# Altium footprint library led.PCBLIB: 114 footprints (part 8 of 8)
Each footprint in its own frame and in the unit in brackets; x right, y up, seen from the top. Pads: shape width x height; smd on the part's side, far side on the other; paste and mask are expansions set on the pad; w line width, h text height; cw(c..) or ccw(c..) is an arc to the next point about the centre after c.
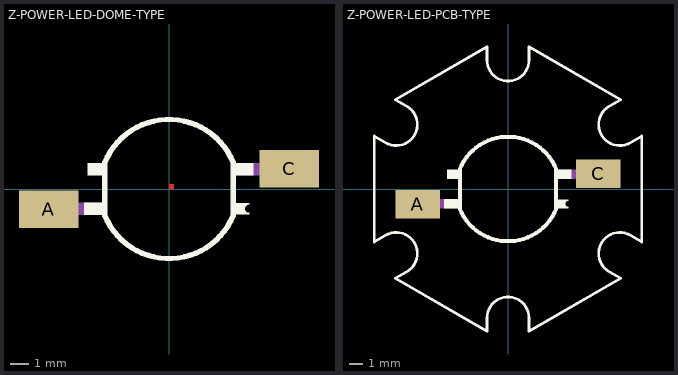
[diagram p7: the footprints below, top view; thin cyan lines are the x and y axes]

## Z-POWER-LED-DOME-TYPE [mil]
pads (2):
  rect 129.92x82.68 smd: A(-261.81,-44.09) C(261.81,44.09)
Top Layer:
  region: 0,0 10,0 10,10 0,10
Top Overlay:
  rectangle: 137.8,29.53 184.06,57.09
  rectangle: -185.04,-57.09 -138.78,-29.53
  rectangle: -177.17,29.53 -139.76,57.09
  region: 143.7,-31.5 175.2,-31.5 175.2,-33.46 173.3,-33.55 169.76,-34.86 167.02,-37.46 165.53,-40.93 165.53,-44.7 167.02,-48.17 169.76,-50.77 173.3,-52.08 175.2,-52.17 175.2,-55.12 143.7,-55.12
  lines w11.81: -139.76,-58.07 ccw(c0,-0.37) 139.76,-58.07 139.76,58.07 ccw(c0,0.37) -139.76,58.07 -139.76,-58.07
Top Paste:
  region: 0,14.76 71.85,86.61 64.43,93.03 47.54,103.04 29.14,109.9 9.82,113.38 -9.82,113.38 -29.14,109.9 -47.54,103.04 -64.43,93.03 -71.85,86.61
  region: 14.76,0 86.61,-71.85 93.03,-64.43 103.04,-47.54 109.9,-29.14 113.38,-9.82 113.38,9.82 109.9,29.14 103.04,47.54 93.03,64.43 86.61,71.85
  region: 0,-14.76 -71.85,-86.61 -64.43,-93.03 -47.54,-103.04 -29.14,-109.9 -9.82,-113.38 9.82,-113.38 29.14,-109.9 47.54,-103.04 64.43,-93.03 71.85,-86.61
  region: -14.76,0 -86.61,71.85 -93.03,64.43 -103.04,47.54 -109.9,29.14 -113.38,9.82 -113.38,-9.82 -109.9,-29.14 -103.04,-47.54 -93.03,-64.43 -86.61,-71.85
Top Solder:
  circle w0: c0,0 r125.98
Mechanical 4:
  rectangle: -221.46,-57.09 -138.78,-29.53
  region: 285.43,72.83 221.46,72.83 221.46,13.78 285.43,13.78
  rectangle: -285.43,-72.83 -221.46,-13.78
  region: 221.46,57.09 142.72,57.09 142.72,29.53 221.46,29.53

## Z-POWER-LED-PCB-TYPE [mil]
pads (2):
  rect 129.92x82.68 smd: A(-261.81,-44.09) C(261.81,44.09)
Top Overlay:
  rectangle: 137.8,29.53 184.06,57.09
  rectangle: -185.04,-57.09 -138.78,-29.53
  rectangle: -177.17,29.53 -139.76,57.09
  region: 143.7,-31.5 175.2,-31.5 175.2,-33.46 173.3,-33.55 169.76,-34.86 167.02,-37.46 165.53,-40.93 165.53,-44.7 167.02,-48.17 169.76,-50.77 173.3,-52.08 175.2,-52.17 175.2,-55.12 143.7,-55.12
  lines w8: -387.8,-153.54 -387.8,153.54 ; -387.66,-153.35 -354.42,-134.16 cw(c-323.9,-187) -293.39,-239.85 -326.64,-259.05 ; -387.66,153.35 -354.42,134.16 ccw(c-323.9,187) -293.39,239.85 -326.64,259.05 ; -326.77,-258.86 -61.02,-412.4 -61.02,-374.02 cw(c0,-374.02) 61.02,-374.02 61.02,-412.4 326.77,-258.86 ; -326.77,258.86 -61.02,412.4 -61.02,374.02 ccw(c0,374.02) 61.02,374.02 61.02,412.4 326.77,258.86 ; 326.64,-259.05 293.39,-239.85 cw(c323.9,-187) 354.42,-134.16 387.66,-153.35 ; 326.64,259.05 293.39,239.85 ccw(c323.9,187) 354.42,134.16 387.66,153.35 ; 387.8,-153.54 387.8,153.54
  lines w11.81: -139.76,-58.07 ccw(c0,-0.37) 139.76,-58.07 139.76,58.07 ccw(c0,0.37) -139.76,58.07 -139.76,-58.07
Top Paste:
  circle w0: c0,0 r118.11
Top Solder:
  circle w0: c0,0 r125.98
Mechanical 4:
  rectangle: -221.46,-57.09 -138.78,-29.53
  region: 285.43,72.83 221.46,72.83 221.46,13.78 285.43,13.78
  rectangle: -285.43,-72.83 -221.46,-13.78
  region: 221.46,57.09 142.72,57.09 142.72,29.53 221.46,29.53